# Altium integrated library Analog Devices Temperature Sensors.IntLib: 271 symbols (part 5 of 14)
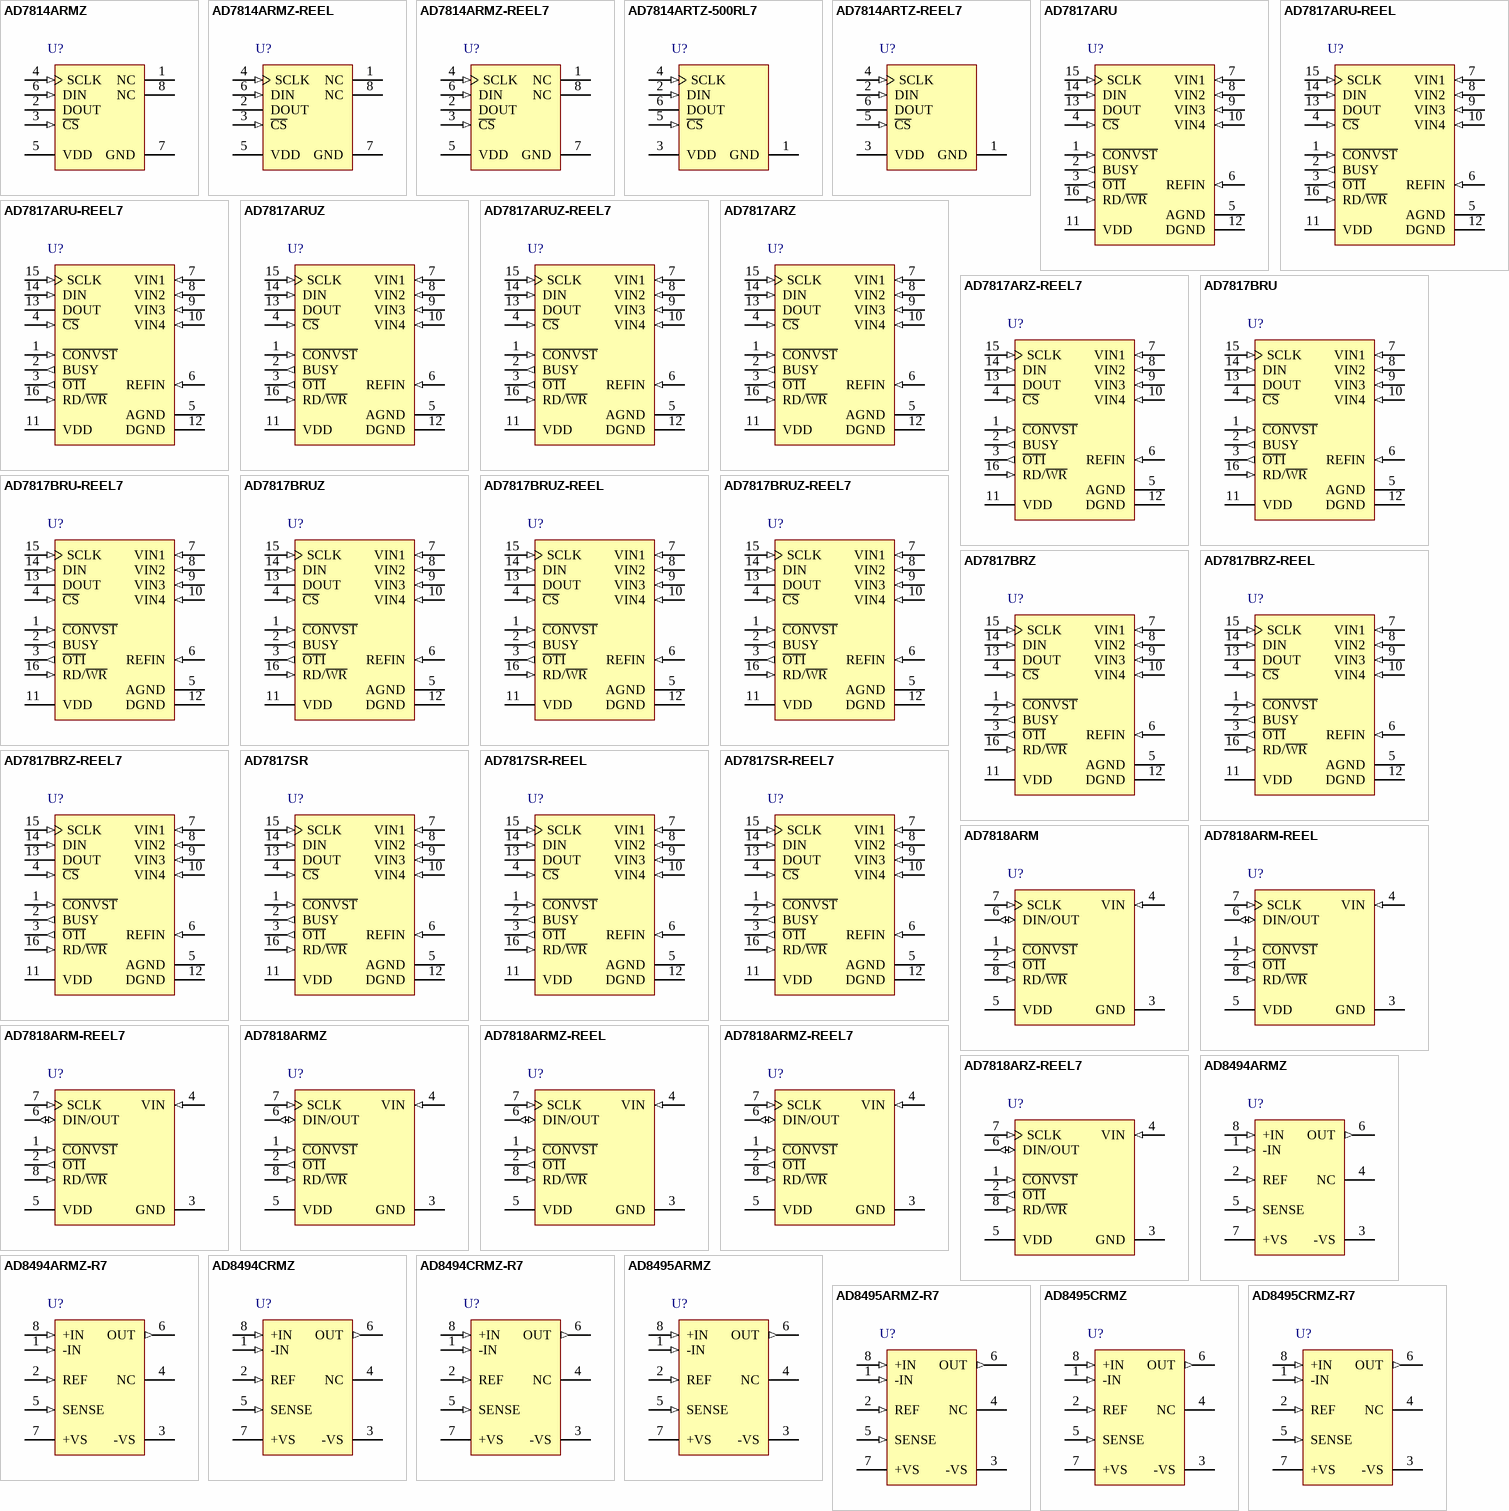
[diagram p11: symbols AD7814ARMZ to AD8495CRMZ-R7]

## AD7814ARMZ
designator U?
10-Bit Digital Temperature Sensor, 2.7 to 5.5 V Supply, Industrial, 8-pin SOP (RM-8), Tube; Manufacturer: Analog Devices; PartNumber: AD7814ARMZ; DatasheetVersion: Rev. E; PackageVersion: 08/2005; PackageReference: RM-8; PackageDescription: 8-Pin Mini Small Outline Package, Body 3 x 3 mm, Pitch 0.65 mm; Supplier 1: Digi-Key; Supplier Part Number 1: AD7814ARMZ-ND; Supplier 2: Farnell; Supplier Part Number 2: 2102499; Supplier 3: Newark; Supplier Part Number 3: 19M8855; Supplier 4: Mouser; Supplier Part Number 4: 584-AD7814ARMZ; Packing: Tube; Supply Voltage Range: 2.7 to 5.5 V; Mounting Technology: Surface Mount; Code_JEDEC: MO-187-AA; ComponentLink1Description: Manufacturer URL; ComponentLink1URL: http://www.analog.com/en/index.html; ComponentLink2Description: Datasheet; ComponentLink2URL: http://www.analog.com/static/imported-files/data_sheets/AD7814.pdf; ComponentLink3Description: Package Specification; ComponentLink3URL: http://www.analog.com/static/imported-files/packages/PKG_PDF/MSOP%28RM%29/RM_8.pdf; ComponentLink4Description: Product URL; ComponentLink4URL: http://www.analog.com/en/mems-sensors/digital-temperature-sensors/ad7814/products/product.html
footprint ADI-RM-8_N (SOP, 8-Leads, Body 3x3mm, Pitch 0.65mm, IPC Medium Density)
footprint ADI-RM-8_L (SOP, 8-Leads, Body 3x3mm, Pitch 0.65mm, IPC High Density)
footprint ADI-RM-8_M (SOP, 8-Leads, Body 3x3mm, Pitch 0.65mm, IPC Low Density)
pins: 1 NC "No Connect.", 2 DOUT (hiz) "Serial Data Output. Logic output. Data is clocked out of the temperature value register at this pin. Data is clocked out on the falling edge of SCLK.", 3 ~{CS} (in) "Chip Select Input. Logic input. The device is selected when this input is low. The SCLK input is disabled when this pin is high.", 4 SCLK (in) "Serial Clock Input. This is the clock input for the serial port.", 5 VDD (power) "Positive Supply Voltage.", 6 DIN (in) "Serial Data Input. Serial data to be loaded to the part’s control register is provided on this input. Data is clocked into the control register on the rising edge of SCLK.", 7 GND (power) "Analog and Digital Ground.", 8 NC "No Connect."

## AD7814ARMZ-REEL
designator U?
10-Bit Digital Temperature Sensor, 2.7 to 5.5 V Supply, Industrial, 8-pin SOP (RM-8), Reel; Manufacturer: Analog Devices; PartNumber: AD7814ARMZ-REEL; DatasheetVersion: Rev. E; PackageVersion: 08/2005; PackageReference: RM-8; PackageDescription: 8-Pin Mini Small Outline Package, Body 3 x 3 mm, Pitch 0.65 mm; Supplier 1: Digi-Key; Supplier Part Number 1: AD7814ARMZ-REEL-ND; Supplier 2: Newark; Supplier Part Number 2: 59K5532; Supplier 3: Mouser; Supplier Part Number 3: 584-AD7814ARMZ-R; Packing: Reel; Supply Voltage Range: 2.7 to 5.5 V; Mounting Technology: Surface Mount; Code_JEDEC: MO-187-AA; ComponentLink1Description: Manufacturer URL; ComponentLink1URL: http://www.analog.com/en/index.html; ComponentLink2Description: Datasheet; ComponentLink2URL: http://www.analog.com/static/imported-files/data_sheets/AD7814.pdf; ComponentLink3Description: Package Specification; ComponentLink3URL: http://www.analog.com/static/imported-files/packages/PKG_PDF/MSOP%28RM%29/RM_8.pdf; ComponentLink4Description: Product URL; ComponentLink4URL: http://www.analog.com/en/mems-sensors/digital-temperature-sensors/ad7814/products/product.html
footprint ADI-RM-8_N (SOP, 8-Leads, Body 3x3mm, Pitch 0.65mm, IPC Medium Density)
footprint ADI-RM-8_L (SOP, 8-Leads, Body 3x3mm, Pitch 0.65mm, IPC High Density)
footprint ADI-RM-8_M (SOP, 8-Leads, Body 3x3mm, Pitch 0.65mm, IPC Low Density)
pins: 1 NC "No Connect.", 2 DOUT (hiz) "Serial Data Output. Logic output. Data is clocked out of the temperature value register at this pin. Data is clocked out on the falling edge of SCLK.", 3 ~{CS} (in) "Chip Select Input. Logic input. The device is selected when this input is low. The SCLK input is disabled when this pin is high.", 4 SCLK (in) "Serial Clock Input. This is the clock input for the serial port.", 5 VDD (power) "Positive Supply Voltage.", 6 DIN (in) "Serial Data Input. Serial data to be loaded to the part’s control register is provided on this input. Data is clocked into the control register on the rising edge of SCLK.", 7 GND (power) "Analog and Digital Ground.", 8 NC "No Connect."

## AD7814ARMZ-REEL7
designator U?
10-Bit Digital Temperature Sensor, 2.7 to 5.5 V Supply, Industrial, 8-pin SOP (RM-8), Reel; Manufacturer: Analog Devices; PartNumber: AD7814ARMZ-REEL7; DatasheetVersion: Rev. E; PackageVersion: 08/2005; PackageReference: RM-8; PackageDescription: 8-Pin Mini Small Outline Package, Body 3 x 3 mm, Pitch 0.65 mm; Supplier 1: Digi-Key; Supplier Part Number 1: AD7814ARMZ-REEL7TR-ND; Supplier 2: Digi-Key; Supplier Part Number 2: AD7814ARMZ-REEL7CT-ND; Supplier 3: Digi-Key; Supplier Part Number 3: AD7814ARMZ-REEL7DKR-ND; Supplier 4: Newark; Supplier Part Number 4: 59K5533; Supplier 5: Mouser; Supplier Part Number 5: 584-AD7814ARMZ-R7; Packing: Reel; Supply Voltage Range: 2.7 to 5.5 V; Mounting Technology: Surface Mount; Code_JEDEC: MO-187-AA; ComponentLink1Description: Manufacturer URL; ComponentLink1URL: http://www.analog.com/en/index.html; ComponentLink2Description: Datasheet; ComponentLink2URL: http://www.analog.com/static/imported-files/data_sheets/AD7814.pdf; ComponentLink3Description: Package Specification; ComponentLink3URL: http://www.analog.com/static/imported-files/packages/PKG_PDF/MSOP%28RM%29/RM_8.pdf; ComponentLink4Description: Product URL; ComponentLink4URL: http://www.analog.com/en/mems-sensors/digital-temperature-sensors/ad7814/products/product.html
footprint ADI-RM-8_N (SOP, 8-Leads, Body 3x3mm, Pitch 0.65mm, IPC Medium Density)
footprint ADI-RM-8_L (SOP, 8-Leads, Body 3x3mm, Pitch 0.65mm, IPC High Density)
footprint ADI-RM-8_M (SOP, 8-Leads, Body 3x3mm, Pitch 0.65mm, IPC Low Density)
pins: 1 NC "No Connect.", 2 DOUT (hiz) "Serial Data Output. Logic output. Data is clocked out of the temperature value register at this pin. Data is clocked out on the falling edge of SCLK.", 3 ~{CS} (in) "Chip Select Input. Logic input. The device is selected when this input is low. The SCLK input is disabled when this pin is high.", 4 SCLK (in) "Serial Clock Input. This is the clock input for the serial port.", 5 VDD (power) "Positive Supply Voltage.", 6 DIN (in) "Serial Data Input. Serial data to be loaded to the part’s control register is provided on this input. Data is clocked into the control register on the rising edge of SCLK.", 7 GND (power) "Analog and Digital Ground.", 8 NC "No Connect."

## AD7814ARTZ-500RL7
designator U?
10-Bit Digital Temperature Sensor, 2.7 to 5.5 V Supply, Industrial, 6-pin SOT23 (RJ-6), Reel; Manufacturer: Analog Devices; PartNumber: AD7814ARTZ-500RL7; DatasheetVersion: Rev. E; PackageVersion: 121608-A, 12/2008; PackageReference: RJ-6; PackageDescription: 6-Pin Small Outline Transistor Package, Body 2.9 x 1.6 mm, Pitch 0.95 mm; Supplier 1: Digi-Key; Supplier Part Number 1: AD7814ARTZ-500RL7TR-ND; Supplier 2: Digi-Key; Supplier Part Number 2: AD7814ARTZ-500RL7CT-ND; Supplier 3: Digi-Key; Supplier Part Number 3: AD7814ARTZ-500RL7DKR-ND; Supplier 4: Farnell; Supplier Part Number 4: 1651314; Supplier 5: Farnell; Supplier Part Number 5: 1651314RL; Supplier 6: Farnell; Supplier Part Number 6: 1319409; Supplier 7: Newark; Supplier Part Number 7: 59K5537; Supplier 8: Newark; Supplier Part Number 8: 19M8857; Supplier 9: Mouser; Supplier Part Number 9: 584-AD7814ARTZ-500R7; Packing: Reel; Supply Voltage Range: 2.7 to 5.5 V; Mounting Technology: Surface Mount; Code_JEDEC: MO-178-AB; ComponentLink1Description: Manufacturer URL; ComponentLink1URL: http://www.analog.com/en/index.html; ComponentLink2Description: Datasheet; ComponentLink2URL: http://www.analog.com/static/imported-files/data_sheets/AD7814.pdf; ComponentLink3Description: Package Specification; ComponentLink3URL: http://www.analog.com/static/imported-files/packages/PKG_PDF/SOT-23(RJ)/RJ_6.pdf; ComponentLink4Description: Product URL; ComponentLink4URL: http://www.analog.com/en/mems-sensors/digital-temperature-sensors/ad7814/products/product.html
footprint ADI-RJ-6_N (SOT23, 6-Leads, Body 2.9x1.6mm, Pitch 0.95mm, IPC Medium Density)
footprint ADI-RJ-6_L (SOT23, 6-Leads, Body 2.9x1.6mm, Pitch 0.95mm, IPC High Density)
footprint ADI-RJ-6_M (SOT23, 6-Leads, Body 2.9x1.6mm, Pitch 0.95mm, IPC Low Density)
pins: 1 GND (power) "Analog and Digital Ground.", 2 DIN (in) "Serial Data Input. Serial data to be loaded to the part’s control register is provided on this input. Data is clocked into the control register on the rising edge of SCLK.", 3 VDD (power) "Positive Supply Voltage, 2.7 V to 5.25 V.", 4 SCLK (in) "Serial Clock Input. This is the clock input for the serial port. The serial clock is used to clock data out of the temperature value register and to clock data into the control register on the part.", 5 ~{CS} (in) "Chip Select Input. Logic input. The device is selected when this input is low. The SCLK input is disabled when this pin is high.", 6 DOUT (hiz) "Serial Data Output. Logic output. Data is clocked out of the temperature value register at this pin. Data is clocked out on the falling edge of SCLK."

## AD7814ARTZ-REEL7
designator U?
10-Bit Digital Temperature Sensor, 2.7 to 5.5 V Supply, Industrial, 6-pin SOT23 (RJ-6), Reel; Manufacturer: Analog Devices; PartNumber: AD7814ARTZ-REEL7; DatasheetVersion: Rev. E; PackageVersion: 121608-A, 12/2008; PackageReference: RJ-6; PackageDescription: 6-Pin Small Outline Transistor Package, Body 2.9 x 1.6 mm, Pitch 0.95 mm; Supplier 1: Digi-Key; Supplier Part Number 1: AD7814ARTZ-REEL7TR-ND; Supplier 2: Digi-Key; Supplier Part Number 2: AD7814ARTZ-REEL7CT-ND; Supplier 3: Digi-Key; Supplier Part Number 3: AD7814ARTZ-REEL7DKR-ND; Supplier 4: Farnell; Supplier Part Number 4: 1838913; Supplier 5: Newark; Supplier Part Number 5: 96K2104; Supplier 6: Newark; Supplier Part Number 6: 59K5536; Supplier 7: Mouser; Supplier Part Number 7: 584-AD7814ARTZ-R7; Packing: Reel; Supply Voltage Range: 2.7 to 5.5 V; Mounting Technology: Surface Mount; Code_JEDEC: MO-178-AB; ComponentLink1Description: Manufacturer URL; ComponentLink1URL: http://www.analog.com/en/index.html; ComponentLink2Description: Datasheet; ComponentLink2URL: http://www.analog.com/static/imported-files/data_sheets/AD7814.pdf; ComponentLink3Description: Package Specification; ComponentLink3URL: http://www.analog.com/static/imported-files/packages/PKG_PDF/SOT-23(RJ)/RJ_6.pdf; ComponentLink4Description: Product URL; ComponentLink4URL: http://www.analog.com/en/mems-sensors/digital-temperature-sensors/ad7814/products/product.html
footprint ADI-RJ-6_N (SOT23, 6-Leads, Body 2.9x1.6mm, Pitch 0.95mm, IPC Medium Density)
footprint ADI-RJ-6_L (SOT23, 6-Leads, Body 2.9x1.6mm, Pitch 0.95mm, IPC High Density)
footprint ADI-RJ-6_M (SOT23, 6-Leads, Body 2.9x1.6mm, Pitch 0.95mm, IPC Low Density)
pins: 1 GND (power) "Analog and Digital Ground.", 2 DIN (in) "Serial Data Input. Serial data to be loaded to the part’s control register is provided on this input. Data is clocked into the control register on the rising edge of SCLK.", 3 VDD (power) "Positive Supply Voltage, 2.7 V to 5.25 V.", 4 SCLK (in) "Serial Clock Input. This is the clock input for the serial port. The serial clock is used to clock data out of the temperature value register and to clock data into the control register on the part.", 5 ~{CS} (in) "Chip Select Input. Logic input. The device is selected when this input is low. The SCLK input is disabled when this pin is high.", 6 DOUT (hiz) "Serial Data Output. Logic output. Data is clocked out of the temperature value register at this pin. Data is clocked out on the falling edge of SCLK."

## AD7817ARU
designator U?
Dual, Low Power CMOS, Analog Front End with DSP Microcomputer, 2.7 to 5.5 V Supply, Industrial, 16-pin SOP (RU-16), Tube; Manufacturer: Analog Devices; PartNumber: AD7817ARU; #_ADC_channels: 4; DatasheetVersion: Rev. D; PackageVersion: 11/2002; PackageReference: RU-16; PackageDescription: 16-Pin Thin Shrink Small Outline Package, Body 5 x 4.4 mm, Pitch 0.65 mm; Supplier 1: Digi-Key; Supplier Part Number 1: AD7817ARU-ND; Supplier 2: Mouser; Supplier Part Number 2: 584-AD7817ARU; Packing: Tube; Supply Voltage Range: 2.7 to 5.5 V; Mounting Technology: Surface Mount; Code_JEDEC: MO-153AB; ComponentLink1Description: Manufacturer URL; ComponentLink1URL: http://www.analog.com/en/index.html; ComponentLink2Description: Datasheet; ComponentLink2URL: http://www.analog.com/static/imported-files/data_sheets/AD7817_7818.pdf; ComponentLink3Description: Package Specification; ComponentLink3URL: http:/www.analog.com/static/imported-files/packages/36244347913743854010197452789RU16.pdf; ComponentLink4Description: Product URL; ComponentLink4URL: http://www.analog.com/en/mems-sensors/digital-temperature-sensors/ad7817/products/product.html
footprint ADI-RU-16_N (SOP, 16-Leads, Body 5x4.4mm, Pitch 0.65mm, IPC Medium Density)
footprint ADI-RU-16_L (SOP, 16-Leads, Body 5x4.4mm, Pitch 0.65mm, IPC High Density)
footprint ADI-RU-16_M (SOP, 16-Leads, Body 5x4.4mm, Pitch 0.65mm, IPC Low Density)
pins: 1 ~{CONVST} (in) "Logic Input Signal. The convert start signal. A 10-bit analog-to-digital conversion is initiated on the falling edge of this signal. The falling edge of this signal places track-and-hold in hold mode. Track-and-hold goes (See Datasheet)", 2 BUSY (out) "Logic Output. The busy signal is logic high during a temperature or voltage A/D conversion. The signal can be used to interrupt a microcontroller when a conversion has finished.", 3 ~{OTI} (out) "Logic Output. The overtemperature indicator (O\T\I\) is set logic low if the result of a conversion on Channel 0 (temperature sensor) is greater that an 8-bit word in the overtemperature register (OTR). The signal is reset (See Datasheet)", 4 ~{CS} (in) "Logic Input Signal. The chip select signal is used to enable the serial port of the AD7817. This is necessary if the AD7817 is sharing the serial bus with more than one device.", 5 AGND (power) "Analog Ground. Ground reference for track-and-hold comparator and capacitor DAC.", 6 REFIN (in) "Analog Input. An external 2.5 V reference can be connected to the AD7817 at this pin. To enable the on-chip reference, tie the REFIN pin to AGND. If an external reference is connected to the AD7817, the internal reference (See Datasheet)", 7 VIN1 (in) "Analog Input Channels. The AD7817 has four analog input channels. The input channels are single-ended with respect to AGND (analog ground). The input channels can convert voltage signals in the range 0 V to VREF. A channel (See Datasheet)", 8 VIN2 (in) "Analog Input Channels. The AD7817 has four analog input channels. The input channels are single-ended with respect to AGND (analog ground). The input channels can convert voltage signals in the range 0 V to VREF. A channel (See Datasheet)", 9 VIN3 (in) "Analog Input Channels. The AD7817 has four analog input channels. The input channels are single-ended with respect to AGND (analog ground). The input channels can convert voltage signals in the range 0 V to VREF. A channel (See Datasheet)", 10 VIN4 (in) "Analog Input Channels. The AD7817 has four analog input channels. The input channels are single-ended with respect to AGND (analog ground). The input channels can convert voltage signals in the range 0 V to VREF. A channel (See Datasheet)", 11 VDD (power) "Positive Supply Voltage, 2.7 V to 5.5 V.", 12 DGND (power) "Digital Ground. Ground reference for digital circuitry.", 13 DOUT (hiz) "Logic Output with a High Impedance State. Data is clocked out of the AD7817 serial port at this pin. This output goes into a high impedance state on the falling edge of RD/W\R\ or on the rising edge of the C\S\ signal, (See Datasheet)", 14 DIN (in) "Logic Input. Data is clocked into the AD7817 at this pin.", 15 SCLK (in) "Clock Input for the Serial Port. The serial clock is used to clock data into and out of the AD7817. Data is clocked out on the falling edge and clocked in on the rising edge.", 16 RD/~{WR} (in) "Logic Input Signal. The read/write signal is used to indicate to the AD7817 whether the data transfer operation is a read or a write. Set the RD/W\R\ logic high for a read operation and logic low for a write operation."

## AD7817ARU-REEL
designator U?
Dual, Low Power CMOS, Analog Front End with DSP Microcomputer, 2.7 to 5.5 V Supply, Industrial, 16-pin SOP (RU-16), Reel; Manufacturer: Analog Devices; PartNumber: AD7817ARU-REEL; #_ADC_channels: 4; DatasheetVersion: Rev. D; PackageVersion: 11/2002; PackageReference: RU-16; PackageDescription: 16-Pin Thin Shrink Small Outline Package, Body 5 x 4.4 mm, Pitch 0.65 mm; Supplier 1: Digi-Key; Supplier Part Number 1: AD7817ARU-REEL-ND; Supplier 2: Mouser; Supplier Part Number 2: 584-AD7817ARU-R; Packing: Reel; Supply Voltage Range: 2.7 to 5.5 V; Mounting Technology: Surface Mount; Code_JEDEC: MO-153AB; ComponentLink1Description: Manufacturer URL; ComponentLink1URL: http://www.analog.com/en/index.html; ComponentLink2Description: Datasheet; ComponentLink2URL: http://www.analog.com/static/imported-files/data_sheets/AD7817_7818.pdf; ComponentLink3Description: Package Specification; ComponentLink3URL: http:/www.analog.com/static/imported-files/packages/36244347913743854010197452789RU16.pdf; ComponentLink4Description: Product URL; ComponentLink4URL: http://www.analog.com/en/mems-sensors/digital-temperature-sensors/ad7817/products/product.html
footprint ADI-RU-16_N (SOP, 16-Leads, Body 5x4.4mm, Pitch 0.65mm, IPC Medium Density)
footprint ADI-RU-16_L (SOP, 16-Leads, Body 5x4.4mm, Pitch 0.65mm, IPC High Density)
footprint ADI-RU-16_M (SOP, 16-Leads, Body 5x4.4mm, Pitch 0.65mm, IPC Low Density)
pins: 1 ~{CONVST} (in) "Logic Input Signal. The convert start signal. A 10-bit analog-to-digital conversion is initiated on the falling edge of this signal. The falling edge of this signal places track-and-hold in hold mode. Track-and-hold goes (See Datasheet)", 2 BUSY (out) "Logic Output. The busy signal is logic high during a temperature or voltage A/D conversion. The signal can be used to interrupt a microcontroller when a conversion has finished.", 3 ~{OTI} (out) "Logic Output. The overtemperature indicator (O\T\I\) is set logic low if the result of a conversion on Channel 0 (temperature sensor) is greater that an 8-bit word in the overtemperature register (OTR). The signal is reset (See Datasheet)", 4 ~{CS} (in) "Logic Input Signal. The chip select signal is used to enable the serial port of the AD7817. This is necessary if the AD7817 is sharing the serial bus with more than one device.", 5 AGND (power) "Analog Ground. Ground reference for track-and-hold comparator and capacitor DAC.", 6 REFIN (in) "Analog Input. An external 2.5 V reference can be connected to the AD7817 at this pin. To enable the on-chip reference, tie the REFIN pin to AGND. If an external reference is connected to the AD7817, the internal reference (See Datasheet)", 7 VIN1 (in) "Analog Input Channels. The AD7817 has four analog input channels. The input channels are single-ended with respect to AGND (analog ground). The input channels can convert voltage signals in the range 0 V to VREF. A channel (See Datasheet)", 8 VIN2 (in) "Analog Input Channels. The AD7817 has four analog input channels. The input channels are single-ended with respect to AGND (analog ground). The input channels can convert voltage signals in the range 0 V to VREF. A channel (See Datasheet)", 9 VIN3 (in) "Analog Input Channels. The AD7817 has four analog input channels. The input channels are single-ended with respect to AGND (analog ground). The input channels can convert voltage signals in the range 0 V to VREF. A channel (See Datasheet)", 10 VIN4 (in) "Analog Input Channels. The AD7817 has four analog input channels. The input channels are single-ended with respect to AGND (analog ground). The input channels can convert voltage signals in the range 0 V to VREF. A channel (See Datasheet)", 11 VDD (power) "Positive Supply Voltage, 2.7 V to 5.5 V.", 12 DGND (power) "Digital Ground. Ground reference for digital circuitry.", 13 DOUT (hiz) "Logic Output with a High Impedance State. Data is clocked out of the AD7817 serial port at this pin. This output goes into a high impedance state on the falling edge of RD/W\R\ or on the rising edge of the C\S\ signal, (See Datasheet)", 14 DIN (in) "Logic Input. Data is clocked into the AD7817 at this pin.", 15 SCLK (in) "Clock Input for the Serial Port. The serial clock is used to clock data into and out of the AD7817. Data is clocked out on the falling edge and clocked in on the rising edge.", 16 RD/~{WR} (in) "Logic Input Signal. The read/write signal is used to indicate to the AD7817 whether the data transfer operation is a read or a write. Set the RD/W\R\ logic high for a read operation and logic low for a write operation."

## AD7817ARU-REEL7
designator U?
Dual, Low Power CMOS, Analog Front End with DSP Microcomputer, 2.7 to 5.5 V Supply, Industrial, 16-pin SOP (RU-16), Reel; Manufacturer: Analog Devices; PartNumber: AD7817ARU-REEL7; #_ADC_channels: 4; DatasheetVersion: Rev. D; PackageVersion: 11/2002; PackageReference: RU-16; PackageDescription: 16-Pin Thin Shrink Small Outline Package, Body 5 x 4.4 mm, Pitch 0.65 mm; Supplier 1: Digi-Key; Supplier Part Number 1: AD7817ARU-REEL7-ND; Supplier 2: Mouser; Supplier Part Number 2: 584-AD7817ARU-R7; Packing: Reel; Supply Voltage Range: 2.7 to 5.5 V; Mounting Technology: Surface Mount; Code_JEDEC: MO-153AB; ComponentLink1Description: Manufacturer URL; ComponentLink1URL: http://www.analog.com/en/index.html; ComponentLink2Description: Datasheet; ComponentLink2URL: http://www.analog.com/static/imported-files/data_sheets/AD7817_7818.pdf; ComponentLink3Description: Package Specification; ComponentLink3URL: http:/www.analog.com/static/imported-files/packages/36244347913743854010197452789RU16.pdf; ComponentLink4Description: Product URL; ComponentLink4URL: http://www.analog.com/en/mems-sensors/digital-temperature-sensors/ad7817/products/product.html
footprint ADI-RU-16_N (SOP, 16-Leads, Body 5x4.4mm, Pitch 0.65mm, IPC Medium Density)
footprint ADI-RU-16_L (SOP, 16-Leads, Body 5x4.4mm, Pitch 0.65mm, IPC High Density)
footprint ADI-RU-16_M (SOP, 16-Leads, Body 5x4.4mm, Pitch 0.65mm, IPC Low Density)
pins: 1 ~{CONVST} (in) "Logic Input Signal. The convert start signal. A 10-bit analog-to-digital conversion is initiated on the falling edge of this signal. The falling edge of this signal places track-and-hold in hold mode. Track-and-hold goes (See Datasheet)", 2 BUSY (out) "Logic Output. The busy signal is logic high during a temperature or voltage A/D conversion. The signal can be used to interrupt a microcontroller when a conversion has finished.", 3 ~{OTI} (out) "Logic Output. The overtemperature indicator (O\T\I\) is set logic low if the result of a conversion on Channel 0 (temperature sensor) is greater that an 8-bit word in the overtemperature register (OTR). The signal is reset (See Datasheet)", 4 ~{CS} (in) "Logic Input Signal. The chip select signal is used to enable the serial port of the AD7817. This is necessary if the AD7817 is sharing the serial bus with more than one device.", 5 AGND (power) "Analog Ground. Ground reference for track-and-hold comparator and capacitor DAC.", 6 REFIN (in) "Analog Input. An external 2.5 V reference can be connected to the AD7817 at this pin. To enable the on-chip reference, tie the REFIN pin to AGND. If an external reference is connected to the AD7817, the internal reference (See Datasheet)", 7 VIN1 (in) "Analog Input Channels. The AD7817 has four analog input channels. The input channels are single-ended with respect to AGND (analog ground). The input channels can convert voltage signals in the range 0 V to VREF. A channel (See Datasheet)", 8 VIN2 (in) "Analog Input Channels. The AD7817 has four analog input channels. The input channels are single-ended with respect to AGND (analog ground). The input channels can convert voltage signals in the range 0 V to VREF. A channel (See Datasheet)", 9 VIN3 (in) "Analog Input Channels. The AD7817 has four analog input channels. The input channels are single-ended with respect to AGND (analog ground). The input channels can convert voltage signals in the range 0 V to VREF. A channel (See Datasheet)", 10 VIN4 (in) "Analog Input Channels. The AD7817 has four analog input channels. The input channels are single-ended with respect to AGND (analog ground). The input channels can convert voltage signals in the range 0 V to VREF. A channel (See Datasheet)", 11 VDD (power) "Positive Supply Voltage, 2.7 V to 5.5 V.", 12 DGND (power) "Digital Ground. Ground reference for digital circuitry.", 13 DOUT (hiz) "Logic Output with a High Impedance State. Data is clocked out of the AD7817 serial port at this pin. This output goes into a high impedance state on the falling edge of RD/W\R\ or on the rising edge of the C\S\ signal, (See Datasheet)", 14 DIN (in) "Logic Input. Data is clocked into the AD7817 at this pin.", 15 SCLK (in) "Clock Input for the Serial Port. The serial clock is used to clock data into and out of the AD7817. Data is clocked out on the falling edge and clocked in on the rising edge.", 16 RD/~{WR} (in) "Logic Input Signal. The read/write signal is used to indicate to the AD7817 whether the data transfer operation is a read or a write. Set the RD/W\R\ logic high for a read operation and logic low for a write operation."

## AD7817ARUZ
designator U?
Dual, Low Power CMOS, Analog Front End with DSP Microcomputer, 2.7 to 5.5 V Supply, Industrial, 16-pin SOP (RU-16), Tube; Manufacturer: Analog Devices; PartNumber: AD7817ARUZ; #_ADC_channels: 4; DatasheetVersion: Rev. D; PackageVersion: 11/2002; PackageReference: RU-16; PackageDescription: 16-Pin Thin Shrink Small Outline Package, Body 5 x 4.4 mm, Pitch 0.65 mm; Supplier 1: Digi-Key; Supplier Part Number 1: AD7817ARUZ-ND; Supplier 2: Newark; Supplier Part Number 2: 59K5544; Supplier 3: Mouser; Supplier Part Number 3: 584-AD7817ARUZ; Packing: Tube; Supply Voltage Range: 2.7 to 5.5 V; Mounting Technology: Surface Mount; Code_JEDEC: MO-153AB; ComponentLink1Description: Manufacturer URL; ComponentLink1URL: http://www.analog.com/en/index.html; ComponentLink2Description: Datasheet; ComponentLink2URL: http://www.analog.com/static/imported-files/data_sheets/AD7817_7818.pdf; ComponentLink3Description: Package Specification; ComponentLink3URL: http:/www.analog.com/static/imported-files/packages/36244347913743854010197452789RU16.pdf; ComponentLink4Description: Product URL; ComponentLink4URL: http://www.analog.com/en/mems-sensors/digital-temperature-sensors/ad7817/products/product.html
footprint ADI-RU-16_N (SOP, 16-Leads, Body 5x4.4mm, Pitch 0.65mm, IPC Medium Density)
footprint ADI-RU-16_L (SOP, 16-Leads, Body 5x4.4mm, Pitch 0.65mm, IPC High Density)
footprint ADI-RU-16_M (SOP, 16-Leads, Body 5x4.4mm, Pitch 0.65mm, IPC Low Density)
pins: 1 ~{CONVST} (in) "Logic Input Signal. The convert start signal. A 10-bit analog-to-digital conversion is initiated on the falling edge of this signal. The falling edge of this signal places track-and-hold in hold mode. Track-and-hold goes (See Datasheet)", 2 BUSY (out) "Logic Output. The busy signal is logic high during a temperature or voltage A/D conversion. The signal can be used to interrupt a microcontroller when a conversion has finished.", 3 ~{OTI} (out) "Logic Output. The overtemperature indicator (O\T\I\) is set logic low if the result of a conversion on Channel 0 (temperature sensor) is greater that an 8-bit word in the overtemperature register (OTR). The signal is reset (See Datasheet)", 4 ~{CS} (in) "Logic Input Signal. The chip select signal is used to enable the serial port of the AD7817. This is necessary if the AD7817 is sharing the serial bus with more than one device.", 5 AGND (power) "Analog Ground. Ground reference for track-and-hold comparator and capacitor DAC.", 6 REFIN (in) "Analog Input. An external 2.5 V reference can be connected to the AD7817 at this pin. To enable the on-chip reference, tie the REFIN pin to AGND. If an external reference is connected to the AD7817, the internal reference (See Datasheet)", 7 VIN1 (in) "Analog Input Channels. The AD7817 has four analog input channels. The input channels are single-ended with respect to AGND (analog ground). The input channels can convert voltage signals in the range 0 V to VREF. A channel (See Datasheet)", 8 VIN2 (in) "Analog Input Channels. The AD7817 has four analog input channels. The input channels are single-ended with respect to AGND (analog ground). The input channels can convert voltage signals in the range 0 V to VREF. A channel (See Datasheet)", 9 VIN3 (in) "Analog Input Channels. The AD7817 has four analog input channels. The input channels are single-ended with respect to AGND (analog ground). The input channels can convert voltage signals in the range 0 V to VREF. A channel (See Datasheet)", 10 VIN4 (in) "Analog Input Channels. The AD7817 has four analog input channels. The input channels are single-ended with respect to AGND (analog ground). The input channels can convert voltage signals in the range 0 V to VREF. A channel (See Datasheet)", 11 VDD (power) "Positive Supply Voltage, 2.7 V to 5.5 V.", 12 DGND (power) "Digital Ground. Ground reference for digital circuitry.", 13 DOUT (hiz) "Logic Output with a High Impedance State. Data is clocked out of the AD7817 serial port at this pin. This output goes into a high impedance state on the falling edge of RD/W\R\ or on the rising edge of the C\S\ signal, (See Datasheet)", 14 DIN (in) "Logic Input. Data is clocked into the AD7817 at this pin.", 15 SCLK (in) "Clock Input for the Serial Port. The serial clock is used to clock data into and out of the AD7817. Data is clocked out on the falling edge and clocked in on the rising edge.", 16 RD/~{WR} (in) "Logic Input Signal. The read/write signal is used to indicate to the AD7817 whether the data transfer operation is a read or a write. Set the RD/W\R\ logic high for a read operation and logic low for a write operation."

## AD7817ARUZ-REEL7
designator U?
Dual, Low Power CMOS, Analog Front End with DSP Microcomputer, 2.7 to 5.5 V Supply, Industrial, 16-pin SOP (RU-16), Reel; Manufacturer: Analog Devices; PartNumber: AD7817ARUZ-REEL7; #_ADC_channels: 4; DatasheetVersion: Rev. D; PackageVersion: 11/2002; PackageReference: RU-16; PackageDescription: 16-Pin Thin Shrink Small Outline Package, Body 5 x 4.4 mm, Pitch 0.65 mm; Supplier 1: Digi-Key; Supplier Part Number 1: AD7817ARUZ-REEL7-ND; Supplier 2: Mouser; Supplier Part Number 2: 584-AD7817ARUZ-R7; Packing: Reel; Supply Voltage Range: 2.7 to 5.5 V; Mounting Technology: Surface Mount; Code_JEDEC: MO-153AB; ComponentLink1Description: Manufacturer URL; ComponentLink1URL: http://www.analog.com/en/index.html; ComponentLink2Description: Datasheet; ComponentLink2URL: http://www.analog.com/static/imported-files/data_sheets/AD7817_7818.pdf; ComponentLink3Description: Package Specification; ComponentLink3URL: http:/www.analog.com/static/imported-files/packages/36244347913743854010197452789RU16.pdf; ComponentLink4Description: Product URL; ComponentLink4URL: http://www.analog.com/en/mems-sensors/digital-temperature-sensors/ad7817/products/product.html
footprint ADI-RU-16_N (SOP, 16-Leads, Body 5x4.4mm, Pitch 0.65mm, IPC Medium Density)
footprint ADI-RU-16_L (SOP, 16-Leads, Body 5x4.4mm, Pitch 0.65mm, IPC High Density)
footprint ADI-RU-16_M (SOP, 16-Leads, Body 5x4.4mm, Pitch 0.65mm, IPC Low Density)
pins: 1 ~{CONVST} (in) "Logic Input Signal. The convert start signal. A 10-bit analog-to-digital conversion is initiated on the falling edge of this signal. The falling edge of this signal places track-and-hold in hold mode. Track-and-hold goes (See Datasheet)", 2 BUSY (out) "Logic Output. The busy signal is logic high during a temperature or voltage A/D conversion. The signal can be used to interrupt a microcontroller when a conversion has finished.", 3 ~{OTI} (out) "Logic Output. The overtemperature indicator (O\T\I\) is set logic low if the result of a conversion on Channel 0 (temperature sensor) is greater that an 8-bit word in the overtemperature register (OTR). The signal is reset (See Datasheet)", 4 ~{CS} (in) "Logic Input Signal. The chip select signal is used to enable the serial port of the AD7817. This is necessary if the AD7817 is sharing the serial bus with more than one device.", 5 AGND (power) "Analog Ground. Ground reference for track-and-hold comparator and capacitor DAC.", 6 REFIN (in) "Analog Input. An external 2.5 V reference can be connected to the AD7817 at this pin. To enable the on-chip reference, tie the REFIN pin to AGND. If an external reference is connected to the AD7817, the internal reference (See Datasheet)", 7 VIN1 (in) "Analog Input Channels. The AD7817 has four analog input channels. The input channels are single-ended with respect to AGND (analog ground). The input channels can convert voltage signals in the range 0 V to VREF. A channel (See Datasheet)", 8 VIN2 (in) "Analog Input Channels. The AD7817 has four analog input channels. The input channels are single-ended with respect to AGND (analog ground). The input channels can convert voltage signals in the range 0 V to VREF. A channel (See Datasheet)", 9 VIN3 (in) "Analog Input Channels. The AD7817 has four analog input channels. The input channels are single-ended with respect to AGND (analog ground). The input channels can convert voltage signals in the range 0 V to VREF. A channel (See Datasheet)", 10 VIN4 (in) "Analog Input Channels. The AD7817 has four analog input channels. The input channels are single-ended with respect to AGND (analog ground). The input channels can convert voltage signals in the range 0 V to VREF. A channel (See Datasheet)", 11 VDD (power) "Positive Supply Voltage, 2.7 V to 5.5 V.", 12 DGND (power) "Digital Ground. Ground reference for digital circuitry.", 13 DOUT (hiz) "Logic Output with a High Impedance State. Data is clocked out of the AD7817 serial port at this pin. This output goes into a high impedance state on the falling edge of RD/W\R\ or on the rising edge of the C\S\ signal, (See Datasheet)", 14 DIN (in) "Logic Input. Data is clocked into the AD7817 at this pin.", 15 SCLK (in) "Clock Input for the Serial Port. The serial clock is used to clock data into and out of the AD7817. Data is clocked out on the falling edge and clocked in on the rising edge.", 16 RD/~{WR} (in) "Logic Input Signal. The read/write signal is used to indicate to the AD7817 whether the data transfer operation is a read or a write. Set the RD/W\R\ logic high for a read operation and logic low for a write operation."

## AD7817ARZ
designator U?
Dual, Low Power CMOS, Analog Front End with DSP Microcomputer, 2.7 to 5.5 V Supply, Industrial, 16-pin SOIC (R-16), Tube; Manufacturer: Analog Devices; PartNumber: AD7817ARZ; #_ADC_channels: 4; DatasheetVersion: Rev. D; PackageVersion: 060606-A, 06/2006; PackageReference: R-16; PackageDescription: 16-Pin Standard Small Outline Package, Body 9.9 x 3.9 mm, Pitch 1.27 mm; Supplier 1: Digi-Key; Supplier Part Number 1: AD7817ARZ-ND; Supplier 2: Farnell; Supplier Part Number 2: 9425683; Supplier 3: Newark; Supplier Part Number 3: 59K5547; Supplier 4: Mouser; Supplier Part Number 4: 584-AD7817ARZ; Packing: Tube; Supply Voltage Range: 2.7 to 5.5 V; Mounting Technology: Surface Mount; Code_JEDEC: MS-012-AC; ComponentLink1Description: Manufacturer URL; ComponentLink1URL: http://www.analog.com/en/index.html; ComponentLink2Description: Datasheet; ComponentLink2URL: http://www.analog.com/static/imported-files/data_sheets/AD7817_7818.pdf; ComponentLink3Description: Package Specification; ComponentLink3URL: http://www.analog.com/static/imported-files/packages/PKG_PDF/SOIC_Narrow%20(R)/R_16.pdf; ComponentLink4Description: Product URL; ComponentLink4URL: http://www.analog.com/en/mems-sensors/digital-temperature-sensors/ad7817/products/product.html
footprint ADI-R-16_N (SOIC, 16-Leads, Body 9.9x3.9mm, Pitch 1.27mm, IPC Medium Density)
footprint ADI-R-16_L (SOIC, 16-Leads, Body 9.9x3.9mm, Pitch 1.27mm, IPC High Density)
footprint ADI-R-16_M (SOIC, 16-Leads, Body 9.9x3.9mm, Pitch 1.27mm, IPC Low Density)
pins: 1 ~{CONVST} (in) "Logic Input Signal. The convert start signal. A 10-bit analog-to-digital conversion is initiated on the falling edge of this signal. The falling edge of this signal places track-and-hold in hold mode. Track-and-hold goes (See Datasheet)", 2 BUSY (out) "Logic Output. The busy signal is logic high during a temperature or voltage A/D conversion. The signal can be used to interrupt a microcontroller when a conversion has finished.", 3 ~{OTI} (out) "Logic Output. The overtemperature indicator (O\T\I\) is set logic low if the result of a conversion on Channel 0 (temperature sensor) is greater that an 8-bit word in the overtemperature register (OTR). The signal is reset (See Datasheet)", 4 ~{CS} (in) "Logic Input Signal. The chip select signal is used to enable the serial port of the AD7817. This is necessary if the AD7817 is sharing the serial bus with more than one device.", 5 AGND (power) "Analog Ground. Ground reference for track-and-hold comparator and capacitor DAC.", 6 REFIN (in) "Analog Input. An external 2.5 V reference can be connected to the AD7817 at this pin. To enable the on-chip reference, tie the REFIN pin to AGND. If an external reference is connected to the AD7817, the internal reference (See Datasheet)", 7 VIN1 (in) "Analog Input Channels. The AD7817 has four analog input channels. The input channels are single-ended with respect to AGND (analog ground). The input channels can convert voltage signals in the range 0 V to VREF. A channel (See Datasheet)", 8 VIN2 (in) "Analog Input Channels. The AD7817 has four analog input channels. The input channels are single-ended with respect to AGND (analog ground). The input channels can convert voltage signals in the range 0 V to VREF. A channel (See Datasheet)", 9 VIN3 (in) "Analog Input Channels. The AD7817 has four analog input channels. The input channels are single-ended with respect to AGND (analog ground). The input channels can convert voltage signals in the range 0 V to VREF. A channel (See Datasheet)", 10 VIN4 (in) "Analog Input Channels. The AD7817 has four analog input channels. The input channels are single-ended with respect to AGND (analog ground). The input channels can convert voltage signals in the range 0 V to VREF. A channel (See Datasheet)", 11 VDD (power) "Positive Supply Voltage, 2.7 V to 5.5 V.", 12 DGND (power) "Digital Ground. Ground reference for digital circuitry.", 13 DOUT (hiz) "Logic Output with a High Impedance State. Data is clocked out of the AD7817 serial port at this pin. This output goes into a high impedance state on the falling edge of RD/W\R\ or on the rising edge of the C\S\ signal, (See Datasheet)", 14 DIN (in) "Logic Input. Data is clocked into the AD7817 at this pin.", 15 SCLK (in) "Clock Input for the Serial Port. The serial clock is used to clock data into and out of the AD7817. Data is clocked out on the falling edge and clocked in on the rising edge.", 16 RD/~{WR} (in) "Logic Input Signal. The read/write signal is used to indicate to the AD7817 whether the data transfer operation is a read or a write. Set the RD/W\R\ logic high for a read operation and logic low for a write operation."

## AD7817ARZ-REEL7
designator U?
Dual, Low Power CMOS, Analog Front End with DSP Microcomputer, 2.7 to 5.5 V Supply, Industrial, 16-pin SOIC (R-16), Reel; Manufacturer: Analog Devices; PartNumber: AD7817ARZ-REEL7; #_ADC_channels: 4; DatasheetVersion: Rev. D; PackageVersion: 060606-A, 06/2006; PackageReference: R-16; PackageDescription: 16-Pin Standard Small Outline Package, Body 9.9 x 3.9 mm, Pitch 1.27 mm; Supplier 1: Digi-Key; Supplier Part Number 1: AD7817ARZ-REEL7-ND; Supplier 2: Newark; Supplier Part Number 2: 59K5549; Supplier 3: Mouser; Supplier Part Number 3: 584-AD7817ARZ-R7; Packing: Reel; Supply Voltage Range: 2.7 to 5.5 V; Mounting Technology: Surface Mount; Code_JEDEC: MS-012-AC; ComponentLink1Description: Manufacturer URL; ComponentLink1URL: http://www.analog.com/en/index.html; ComponentLink2Description: Datasheet; ComponentLink2URL: http://www.analog.com/static/imported-files/data_sheets/AD7817_7818.pdf; ComponentLink3Description: Package Specification; ComponentLink3URL: http://www.analog.com/static/imported-files/packages/PKG_PDF/SOIC_Narrow%20(R)/R_16.pdf; ComponentLink4Description: Product URL; ComponentLink4URL: http://www.analog.com/en/mems-sensors/digital-temperature-sensors/ad7817/products/product.html
footprint ADI-R-16_N (SOIC, 16-Leads, Body 9.9x3.9mm, Pitch 1.27mm, IPC Medium Density)
footprint ADI-R-16_L (SOIC, 16-Leads, Body 9.9x3.9mm, Pitch 1.27mm, IPC High Density)
footprint ADI-R-16_M (SOIC, 16-Leads, Body 9.9x3.9mm, Pitch 1.27mm, IPC Low Density)
pins: 1 ~{CONVST} (in) "Logic Input Signal. The convert start signal. A 10-bit analog-to-digital conversion is initiated on the falling edge of this signal. The falling edge of this signal places track-and-hold in hold mode. Track-and-hold goes (See Datasheet)", 2 BUSY (out) "Logic Output. The busy signal is logic high during a temperature or voltage A/D conversion. The signal can be used to interrupt a microcontroller when a conversion has finished.", 3 ~{OTI} (out) "Logic Output. The overtemperature indicator (O\T\I\) is set logic low if the result of a conversion on Channel 0 (temperature sensor) is greater that an 8-bit word in the overtemperature register (OTR). The signal is reset (See Datasheet)", 4 ~{CS} (in) "Logic Input Signal. The chip select signal is used to enable the serial port of the AD7817. This is necessary if the AD7817 is sharing the serial bus with more than one device.", 5 AGND (power) "Analog Ground. Ground reference for track-and-hold comparator and capacitor DAC.", 6 REFIN (in) "Analog Input. An external 2.5 V reference can be connected to the AD7817 at this pin. To enable the on-chip reference, tie the REFIN pin to AGND. If an external reference is connected to the AD7817, the internal reference (See Datasheet)", 7 VIN1 (in) "Analog Input Channels. The AD7817 has four analog input channels. The input channels are single-ended with respect to AGND (analog ground). The input channels can convert voltage signals in the range 0 V to VREF. A channel (See Datasheet)", 8 VIN2 (in) "Analog Input Channels. The AD7817 has four analog input channels. The input channels are single-ended with respect to AGND (analog ground). The input channels can convert voltage signals in the range 0 V to VREF. A channel (See Datasheet)", 9 VIN3 (in) "Analog Input Channels. The AD7817 has four analog input channels. The input channels are single-ended with respect to AGND (analog ground). The input channels can convert voltage signals in the range 0 V to VREF. A channel (See Datasheet)", 10 VIN4 (in) "Analog Input Channels. The AD7817 has four analog input channels. The input channels are single-ended with respect to AGND (analog ground). The input channels can convert voltage signals in the range 0 V to VREF. A channel (See Datasheet)", 11 VDD (power) "Positive Supply Voltage, 2.7 V to 5.5 V.", 12 DGND (power) "Digital Ground. Ground reference for digital circuitry.", 13 DOUT (hiz) "Logic Output with a High Impedance State. Data is clocked out of the AD7817 serial port at this pin. This output goes into a high impedance state on the falling edge of RD/W\R\ or on the rising edge of the C\S\ signal, (See Datasheet)", 14 DIN (in) "Logic Input. Data is clocked into the AD7817 at this pin.", 15 SCLK (in) "Clock Input for the Serial Port. The serial clock is used to clock data into and out of the AD7817. Data is clocked out on the falling edge and clocked in on the rising edge.", 16 RD/~{WR} (in) "Logic Input Signal. The read/write signal is used to indicate to the AD7817 whether the data transfer operation is a read or a write. Set the RD/W\R\ logic high for a read operation and logic low for a write operation."

## AD7817BRU
designator U?
Dual, Low Power CMOS, Analog Front End with DSP Microcomputer, 2.7 to 5.5 V Supply, Industrial, 16-pin SOP (RU-16), Tube; Manufacturer: Analog Devices; PartNumber: AD7817BRU; #_ADC_channels: 4; DatasheetVersion: Rev. D; PackageVersion: 11/2002; PackageReference: RU-16; PackageDescription: 16-Pin Thin Shrink Small Outline Package, Body 5 x 4.4 mm, Pitch 0.65 mm; Supplier 1: Digi-Key; Supplier Part Number 1: AD7817BRU-ND; Supplier 2: Mouser; Supplier Part Number 2: 584-AD7817BRU; Packing: Tube; Supply Voltage Range: 2.7 to 5.5 V; Mounting Technology: Surface Mount; Code_JEDEC: MO-153AB; ComponentLink1Description: Manufacturer URL; ComponentLink1URL: http://www.analog.com/en/index.html; ComponentLink2Description: Datasheet; ComponentLink2URL: http://www.analog.com/static/imported-files/data_sheets/AD7817_7818.pdf; ComponentLink3Description: Package Specification; ComponentLink3URL: http:/www.analog.com/static/imported-files/packages/36244347913743854010197452789RU16.pdf; ComponentLink4Description: Product URL; ComponentLink4URL: http://www.analog.com/en/mems-sensors/digital-temperature-sensors/ad7817/products/product.html
footprint ADI-RU-16_N (SOP, 16-Leads, Body 5x4.4mm, Pitch 0.65mm, IPC Medium Density)
footprint ADI-RU-16_L (SOP, 16-Leads, Body 5x4.4mm, Pitch 0.65mm, IPC High Density)
footprint ADI-RU-16_M (SOP, 16-Leads, Body 5x4.4mm, Pitch 0.65mm, IPC Low Density)
pins: 1 ~{CONVST} (in) "Logic Input Signal. The convert start signal. A 10-bit analog-to-digital conversion is initiated on the falling edge of this signal. The falling edge of this signal places track-and-hold in hold mode. Track-and-hold goes (See Datasheet)", 2 BUSY (out) "Logic Output. The busy signal is logic high during a temperature or voltage A/D conversion. The signal can be used to interrupt a microcontroller when a conversion has finished.", 3 ~{OTI} (out) "Logic Output. The overtemperature indicator (O\T\I\) is set logic low if the result of a conversion on Channel 0 (temperature sensor) is greater that an 8-bit word in the overtemperature register (OTR). The signal is reset (See Datasheet)", 4 ~{CS} (in) "Logic Input Signal. The chip select signal is used to enable the serial port of the AD7817. This is necessary if the AD7817 is sharing the serial bus with more than one device.", 5 AGND (power) "Analog Ground. Ground reference for track-and-hold comparator and capacitor DAC.", 6 REFIN (in) "Analog Input. An external 2.5 V reference can be connected to the AD7817 at this pin. To enable the on-chip reference, tie the REFIN pin to AGND. If an external reference is connected to the AD7817, the internal reference (See Datasheet)", 7 VIN1 (in) "Analog Input Channels. The AD7817 has four analog input channels. The input channels are single-ended with respect to AGND (analog ground). The input channels can convert voltage signals in the range 0 V to VREF. A channel (See Datasheet)", 8 VIN2 (in) "Analog Input Channels. The AD7817 has four analog input channels. The input channels are single-ended with respect to AGND (analog ground). The input channels can convert voltage signals in the range 0 V to VREF. A channel (See Datasheet)", 9 VIN3 (in) "Analog Input Channels. The AD7817 has four analog input channels. The input channels are single-ended with respect to AGND (analog ground). The input channels can convert voltage signals in the range 0 V to VREF. A channel (See Datasheet)", 10 VIN4 (in) "Analog Input Channels. The AD7817 has four analog input channels. The input channels are single-ended with respect to AGND (analog ground). The input channels can convert voltage signals in the range 0 V to VREF. A channel (See Datasheet)", 11 VDD (power) "Positive Supply Voltage, 2.7 V to 5.5 V.", 12 DGND (power) "Digital Ground. Ground reference for digital circuitry.", 13 DOUT (hiz) "Logic Output with a High Impedance State. Data is clocked out of the AD7817 serial port at this pin. This output goes into a high impedance state on the falling edge of RD/W\R\ or on the rising edge of the C\S\ signal, (See Datasheet)", 14 DIN (in) "Logic Input. Data is clocked into the AD7817 at this pin.", 15 SCLK (in) "Clock Input for the Serial Port. The serial clock is used to clock data into and out of the AD7817. Data is clocked out on the falling edge and clocked in on the rising edge.", 16 RD/~{WR} (in) "Logic Input Signal. The read/write signal is used to indicate to the AD7817 whether the data transfer operation is a read or a write. Set the RD/W\R\ logic high for a read operation and logic low for a write operation."